# Altium schematic symbol library MiroCard.SCHLIB: 36 symbols
Pins are listed as number, name and electrical type; pins without a type are passive.

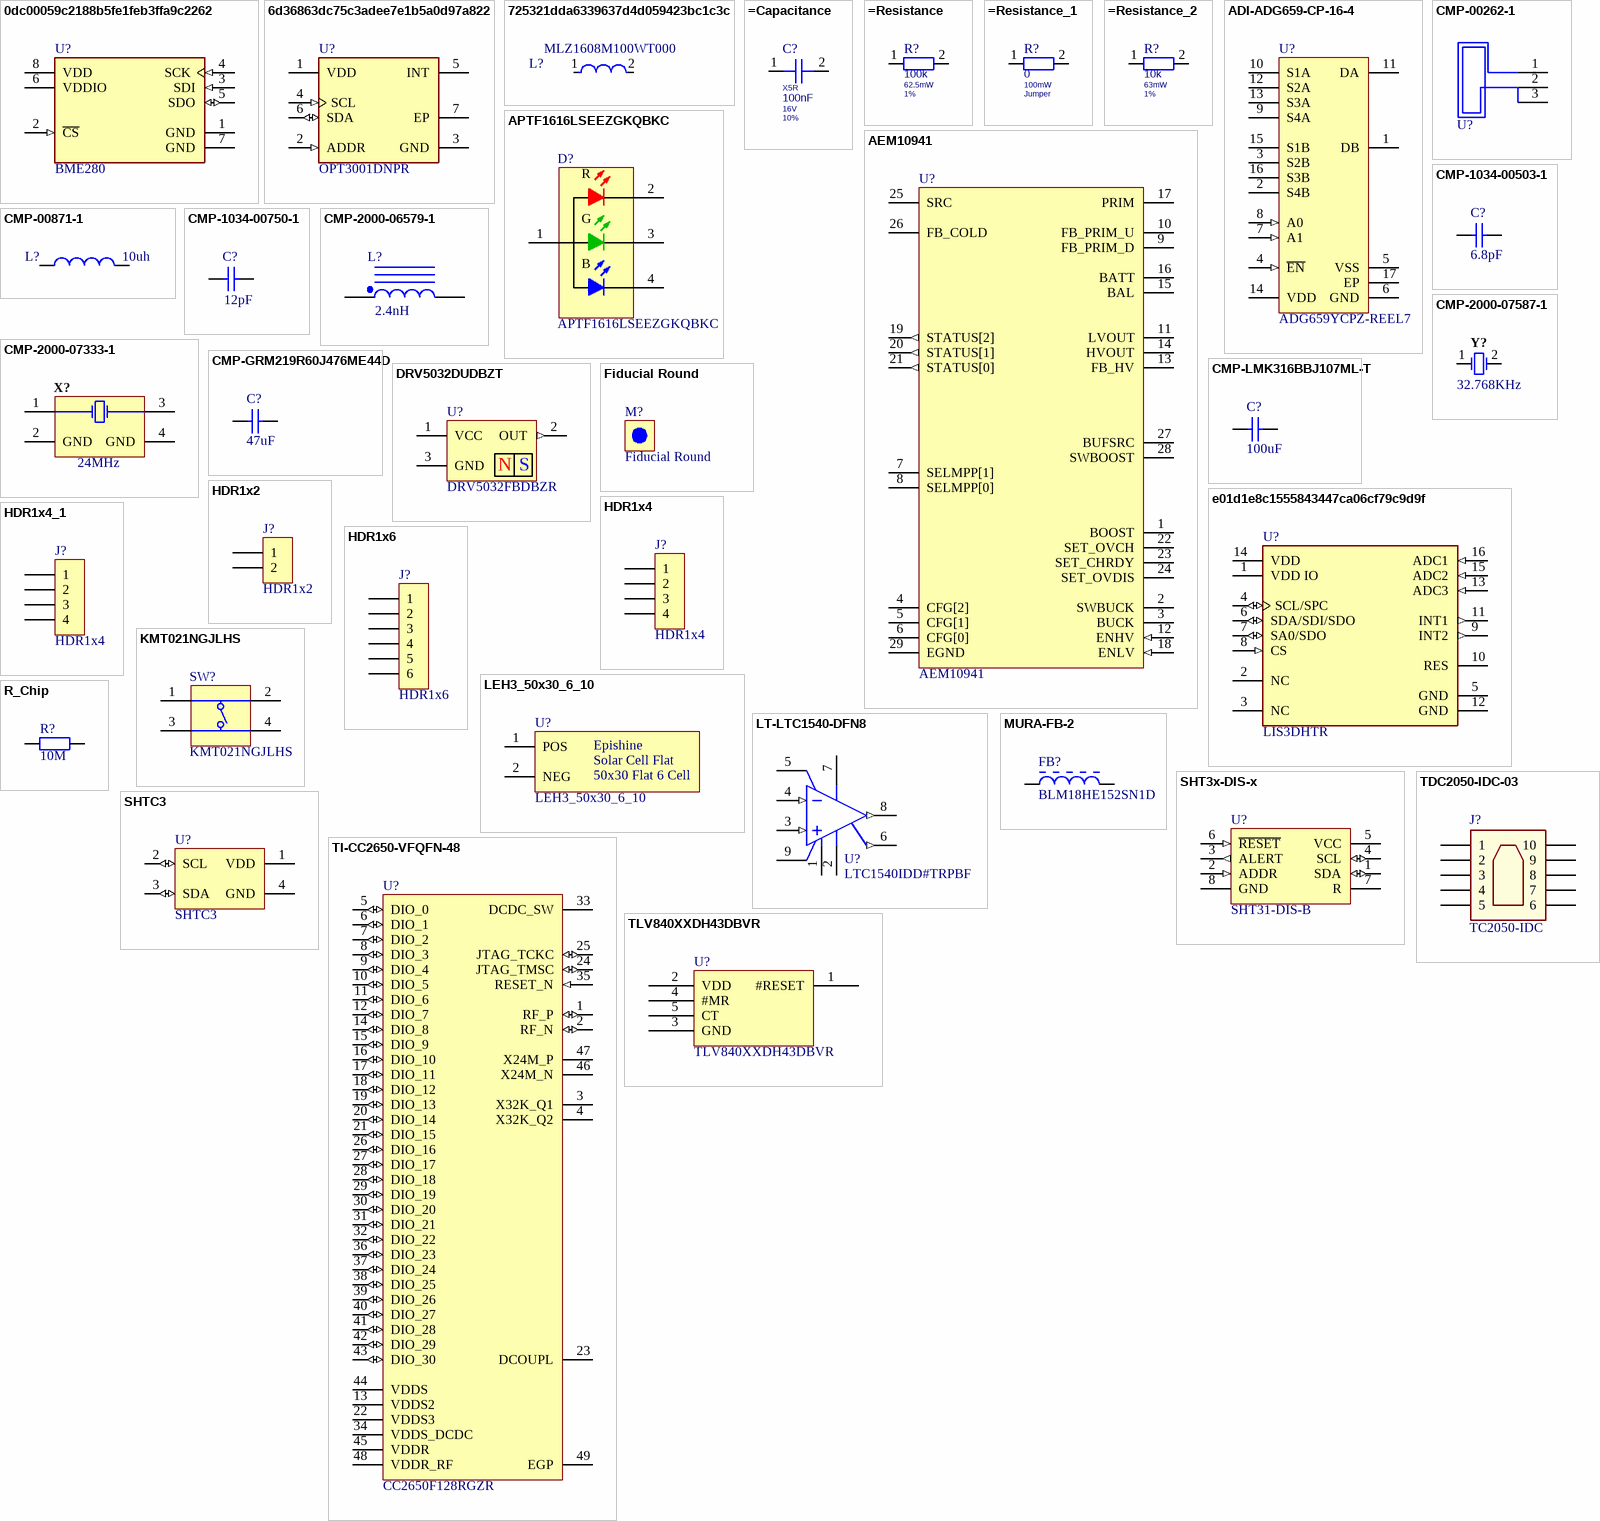
[diagram p0: symbols 0dc00059c2188b5fe1feb3ffa9c2262 to TLV840XXDH43DBVR]

## 0dc00059c2188b5fe1feb3ffa9c2262
designator U?, comment BME280
SENSOR PRESSURE HUMIDITY TEMP; Output Type: SPI; Sensor Type: Temperature; Response Time: 1s; Accuracy: 3%; Packaging: Cut Tape; Lead Free: Lead Free; Number of Pins: 8; Min Operating Temperature: -40°C; Max Operating Temperature: 85°C; Mount: Surface Mount; Case/Package: LGA
footprint FP-BME280-MFG
pins: 1 GND (power), 2 ~{CS} (in), 3 SDI (in), 4 SCK (in), 5 SDO (io), 6 VDDIO (power), 7 GND (power), 8 VDD (power)

## 6d36863dc75c3adee7e1b5a0d97a822
designator U?, comment OPT3001DNPR
SENSOR OPT 550NM AMBIENT 6USON; Manufacturer: Texas Instruments; Max Junction Temp: +150°C; Operating Supply Current: 0.3-1.8uA; Sensor Output: I2C,SMBus; Max Supply Voltage: 3.6V; Min Supply Voltage: 1.6V; Standoff Height: 0mm; Package: DNP0006A; Device Class L2: Optical Sensors; Temperature Range Low: -40°C; Digikey Description: SENSOR OPT 550NM AMBIENT 6USON; Automotive: No; Category: IC; Manufacturer Part Number: OPT3001DNPR; RoHS: TRUE; ComponentLink2URL: http://www.ti.com/lit/ds/symlink/opt3001.pdf; Lead Free: Yes; Octopart: https://octopart.com/opt3001dnpr-texas+instruments-47324050; Device Class L3: unset; ComponentLink2Description: Datasheet; Device Class L1: Sensors; Temperature Range High: +85°C; Temperature: -40°C to +85°C; Height: 0.65mm; Ipc Land Pattern Name: DFN200X200X60-6
footprint FP-DNP0006A-MFG
footprint FP-DNP0006A-IPC_C
footprint FP-DNP0006A-IPC_B
footprint FP-DNP0006A-IPC_A
pins: 1 VDD (power), 2 ADDR (in), 3 GND (power), 4 SCL (in), 5 INT (oc), 6 SDA (io), 7 EP (power)

## 725321dda6339637d4d059423bc1c3c
designator L?, comment MLZ1608M100WT000
FIXED IND 10UH 250MA 1.05 OHM; Manufacturer: TDK; Series Resistance: 1.05Ω; Tolerance: 20%; Shielding: true; Core Material: Ferrite; Saturation Current: 90mA; Test Frequency: 2MHz; Digikey Description: FIXED IND 10UH 250MA 1.05 OHM; Inductance: 10uH; Composition: Multilayer; Device Class L3: Fixed Inductors; Temperature: -55°C to +125°C; RoHS: TRUE; Temperature Range High: +125°C; Automotive: No; Device Class L2: Inductors; Value: 10uH; Temperature Range Low: -55°C; Rms Current: 250mA; Manufacturer Part Number: MLZ1608M100WT000; Category: Ind; Height: 0.95mm; Package: MLZ1608; Device Class L1: Passive Components; Lead Free: Yes; ComponentLink2Description: Datasheet; Octopart: https://octopart.com/mlz1608m100wt000-tdk-22244539; Ipc Land Pattern Name: CAPC16080X80; ComponentLink2URL: https://product.tdk.com/info/en/catalog/datasheets/inductor_commercial_decoupling_mlz1608_en.pdf
footprint FP-MLZ1608-MFG
footprint FP-MLZ1608-IPC_C
footprint FP-MLZ1608-IPC_B
footprint FP-MLZ1608-IPC_A
pins: 1, 2

## =Capacitance
designator C?, comment Dielectric: X5R  Capacitance: 100nF  Voltage Rating: 16V  Tolerance: 10%  (hidden comment: GRM155R61C104KA88D)
0.1µF ±10% 16V Ceramic Capacitor X5R 0402 (1005 Metric); Manufacturer: Murata Electronics; ComponentLink1Description: Datasheet; Manufacturer Part Number: GRM155R61C104KA88D; Supplier 1: Digi-Key; Supplier Part Number 1: 490-5415-1-ND; Mount: Surface Mount; Case/Package: 0402; Case Code (Metric): 1005; Case Code (Imperial): 0402; Min Operating Temperature: -55°C; Max Operating Temperature: 85°C; Package Quantity: 1; Packaging: Tape and Reel; Termination: SMD/SMT; Voltage: 16V; Voltage Rating (DC): 16V; Length: 1mm; Width: 0.02inch; Height: 0.5mm; Thickness: 0.022inch; Depth: 0.5mm; Radiation Hardening: No; REACH SVHC: No SVHC; Lead Free: Lead Free
footprint CAPC0402(1005)60_L (Chip Capacitor, Body 1.0x0.5mm, Height 0.6mm, IPC High Density)
pins: 1, 2

## =Resistance
designator R?, comment Resistance: 100k  Power Rating: 62.5mW  Tolerance: 1%  (hidden comment: RMCF0402FT100K)
100 kOhms ±1% 0,063W, 1/16W Chipwiderstand 0402 (1005 metrisch) AutomobilzulassungAEC-Q200 Dickschicht; Manufacturer: Stackpole Electronics Inc; Temperature Coefficient: 100ppm/°C; Max Power Dissipation: 63mW; ComponentLink1Description: Datasheet; ComponentLink1URL: https://www.seielect.com/catalog/sei-rmcf_rmcp.pdf; Manufacturer Part Number: RMCF0402FT100K; Supplier 1: Digi-Key; Supplier Part Number 1: RMCF0402FT100KCT-ND; Mount: Surface Mount; Case/Package: 0402; Case Code (Metric): 1005; Case Code (Imperial): 0402; Contact Plating: Tin,Matte; Min Operating Temperature: -55°C; Max Operating Temperature: 155°C; Packaging: Tape and Reel; Resistor Type: Thick Film; Number of Terminations: 2; Features: Automotive AEC-Q200; Length: 1mm; Width: 0.02inch; Height: 0.016inch; Depth: 0.5mm; Radiation Hardening: No; Military Standard: Not; Lead Free: Lead Free
footprint RESC0402(1005)_L (Chip Resistor, Body 1.0x0.5mm, IPC High Density)
pins: 1, 2

## =Resistance_1
designator R?, comment Resistance: 0  Power Rating: 100mW  Tolerance: Jumper  (hidden comment: RMCF0603ZT0R00)
0 Ohms Jumper 0.1W, 1/10W Chip Resistor 0603 (1608 Metric) Automotive AEC-Q200 Thick Film; Manufacturer: Stackpole Electronics Inc; Current Rating: 1A; Working Voltage: 75V; ComponentLink1Description: Datasheet; ComponentLink1URL: https://www.seielect.com/catalog/sei-rmcf_rmcp.pdf; Manufacturer Part Number: RMCF0603ZT0R00; Supplier 1: Digi-Key; Supplier Part Number 1: RMCF0603ZT0R00CT-ND; Mount: Surface Mount; Case/Package: 0603; Case Code (Metric): 1608; Case Code (Imperial): 0603; Contact Plating: Tin,Matte; Min Operating Temperature: -55°C; Max Operating Temperature: 155°C; Packaging: Tape and Reel; Resistor Type: Thick Film; Number of Terminations: 2; Max Power Dissipation: 100mW; Features: Automotive AEC-Q200; Length: 1.55mm; Width: 0.031inch; Height: 0.022inch; Depth: 0.8mm; Radiation Hardening: No; Military Standard: Not; Lead Free: Lead Free
footprint RESC0603(1608)_L (Chip Resistor, Body 1.6x0.8mm, IPC High Density)
pins: 1, 2

## =Resistance_2
designator R?, comment Resistance: 10k  Power Rating: 63mW  Tolerance: 1%  (hidden comment: AC0402FR-0710KL)
10 kOhms ±1% 0.063W, 1/16W Chip Resistor 0402 (1005 Metric) Automotive AEC-Q200, Moisture Resistant Thick Film; Manufacturer: Yageo; ComponentLink1Description: Datasheet; ComponentLink1URL: https://www.yageo.com/upload/media/product/productsearch/datasheet/rchip/PYu-AC_51_RoHS_L_7.pdf; Manufacturer Part Number: AC0402FR-0710KL; Supplier 1: Digi-Key; Supplier Part Number 1: YAG3436CT-ND
footprint RESC0201(0603)_L (Chip Resistor, Body 0.6x0.3mm, IPC High Density)
pins: 1, 2

## ADI-ADG659-CP-16-4
designator U?, comment ADG659YCPZ-REEL7
3 V / 5 V / +/-5 V CMOS 4-Channel Analog Multiplexer, -40 to 85 degC, 16-pin QFN (CP-16-4), Reel; Manufacturer: Analog Devices; Ron (ohms): 45; Max Analog Signal Range: Vss to Vdd; t transition (s): 80n; Bandwidth (Hz): 400M; Supply V Guar Performance: Dual_(+/-5V), Single_(+3.3V), Single_(+3V), Single_(+5V); DatasheetVersion: Rev. B; PackageVersion: 010606-0, 01/2006; PackageReference: CP-16-4; Packing: Reel; Mounting Technology: Surface Mount; ComponentLink3URL: http://www.analog.com/static/imported-files/packages/46009454504174339653421710019CP_16_4.pdf; ComponentLink2Description: Datasheet; ComponentLink3Description: Package Specification; Code_JEDEC: MO-220-VGGC; PackageDescription: 16-Pin Lead Frame Chip Scale Package, Body 4 x 4 mm, Pitch 0.65 mm; ComponentLink1Description: Manufacturer URL; ComponentLink2URL: http://www.analog.com/static/imported-files/data_sheets/ADG658_659.pdf; ComponentLink1URL: http://www.analog.com/en/index.html; PartNumber: ADG659YCPZ-REEL7
footprint CP-16-4_L (QFN, 16-Leads, Body 4x4mm, Pitch 0.65mm, Thermal Pad 2.1x2.1mm, IPC High Density)
footprint CP-16-4_M (QFN, 16-Leads, Body 4x4mm, Pitch 0.65mm, Thermal Pad 2.1x2.1mm, IPC Low Density)
footprint CP-16-4_N (QFN, 16-Leads, Body 4x4mm, Pitch 0.65mm, Thermal Pad 2.1x2.1mm, IPC Medium Density)
pins: 1 DB "Drain Terminal. May be an input or output.", 2 S4B "Source Terminal. May be an input or output", 3 S2B "Source Terminal. May be an input or output", 4 ~{EN} (in) "Active Low Digital Input. When high, device is disabled and all switches are OFF. When low, AX logic inputs determine ON switch.", 5 VSS (power) "Most Negative Power Supply Potential.", 6 GND (power) "Ground (0 V) Reference.", 7 A1 (in) "Logic Control Input", 8 A0 (in) "Logic Control Input", 9 S4A "Source Terminal. May be an input or output", 10 S1A "Source Terminal. May be an input or output", 11 DA "Drain Terminal. May be an input or output.", 12 S2A "Source Terminal. May be an input or output", 13 S3A "Source Terminal. May be an input or output", 14 VDD (power) "Most Positive Power Supply Potential.", 15 S1B "Source Terminal. May be an input or output", 16 S3B "Source Terminal. May be an input or output", 17 EP "Exposed pad."

## AEM10941
designator U?
Highly-efficient, regulated dual-output, ambient energy manager; Manufacturer: e-peas; ComponentLink1Description: Datasheet; Manufacturer Part Number: AEM10941; Supplier 1: e-peas; Supplier Part Number 1: AEM10941
footprint QFN50P500X500X85_HS-29N (QFN, 28-Leads, Body 5.00x5.00mm, Pitch 0.50mm, Thermal Pad 3.15x3.15mm, IPC Medium Density)
pins: 1 BOOST, 2 SWBUCK, 3 BUCK, 4 CFG[2], 5 CFG[1], 6 CFG[0], 7 SELMPP[1], 8 SELMPP[0], 9 FB_PRIM_D, 10 FB_PRIM_U, 11 LVOUT, 12 ENHV (in), 13 FB_HV, 14 HVOUT, 15 BAL, 16 BATT, 17 PRIM, 18 ENLV (in), 19 STATUS[2] (out), 20 STATUS[1] (out), 21 STATUS[0] (out), 22 SET_OVCH, 23 SET_CHRDY, 24 SET_OVDIS, 25 SRC, 26 FB_COLD, 27 BUFSRC, 28 SWBOOST, 29 EGND

## APTF1616LSEEZGKQBKC
designator D?
HELI Colour; 1.6X1.6MM LOW CURRENT RGB SMD LED; Manufacturer: Kingbright; Colour: Blue,Green,Red; Lens Colour: Colorless; Lens Transparency: Clear; Luminous Intensity: 14mcd; Test Current: 2mA; Viewing Angle: 120°; Dominant Wavelength: 465nm; Forward Voltage: 2.7V; Properties: Red, Green, Blue (RGB) 621nm Red, 525nm Green, 465nm Blue LED Indication - Discrete 1.8V Red, 2.7V Green, 2.7V Blue 0606 (1616 Metric); Case Code (Metric): 1616; Case Code (Imperial): 0606; Packaging: Tape and Reel; Case/Package: 0606; Length: 1.6mm; Height: 0.9mm; Width: 1.6mm; Manufacturer Part Number: APTF1616LSEEZGKQBKC; Supplier 1: Digi-Key; Supplier Part Number 1: 754-1972-1-ND; ComponentLink1Description: 3447e5e9f92dce591761be9cb3680f3b.pdf; ComponentLink1URL: http://www.alliedelec.com/m/d/3447e5e9f92dce591761be9cb3680f3b.pdf; Category: LED
footprint APTF1616LSEEZGKQBKC (RGB LED 2.65V)
pins: 1, 2 R, 3 G, 4 B

## CMP-00262-1
designator U?, comment Antenna Patch  (value not drawn)  (net tie, no BOM)
2.4GHz Inverted F Antenna; Technology: SMT
footprint 2.4GHz Inverted F Antenna (Antenna Patch, 2 pins, 1 side)
pins: 1, 2, 3

## CMP-00871-1
designator L?, comment Inductance: 10uh  (hidden comment: CKS2125100M-T)
FIXED IND 10UH 110MA 520 MOHM; Core Material: Ferrite; Tolerance: 20%; Shielding: Unshielded; Self Resonant Frequency: 24MHz; DC Resistance (DCR): 520mR; Test Frequency: 2MHz; Mount: Surface Mount; Case/Package: 0805; Case Code (Metric): 2012; Case Code (Imperial): 0805; Min Operating Temperature: -40°C; Max Operating Temperature: 85°C; Package Quantity: 2000; Current Rating: 110mA; Packaging: Tape and Reel; Inductance Tolerance: 20%; Max DC Current: 110mA; Termination: SMD/SMT; DC Current: 110mA; Military Standard: Not; Length: 2mm; Height: 1.25mm; Width: 0.049inch; Height - Seated (Max): 0.057inch; Depth: 1.45mm; Radiation Hardening: No; REACH SVHC: Unknown; Lead Free: Lead Free; Halogen Free: Halogen Free
footprint INDC0805(2012)X11_N (Chip Inductor, 2-Leads, Body 2.00x1.25mm, IPC Medium Density)
footprint INDC0805(2012)X11_L (Chip Inductor, 2-Leads, Body 2.00x1.25mm, IPC High Density)
footprint INDC0805(2012)X11_M (Chip Inductor, 2-Leads, Body 2.00x1.25mm, IPC Low Density)
pins: 1, 2

## CMP-1034-00503-1
designator C?, comment value 6.8pF  (hidden comment: CAP 6.8pF 10V 0402(1005))
CAP 6.8pF 10V ±5% 0402 (1005 Metric) Thickness 0.6mm SMD; Case-EIA: 0402; Case-Metric: 1005; Tolerance: Â±5%; Technology: SMT; Rated Voltage: 10 V; Max Thickness: 0.6 mm
footprint CAPC0402(1005)60_L (Chip Capacitor, Body 1.0x0.5mm, Height 0.6mm, IPC High Density)
footprint CAPC0402(1005)60_N (Chip Capacitor, Body 1.0x0.5mm, Height 0.6mm, IPC Medium Density)
footprint CAPC0402(1005)60_M (Chip Capacitor, Body 1.0x0.5mm, Height 0.6mm, IPC Low Density)
pins: 1, 2
1 alternate drawing of the same symbol

## CMP-1034-00750-1
designator C?, comment value 12pF  (hidden comment: CAP 12pF 10V 0402(1005))
CAP 12pF 10V ±2% 0402 (1005 Metric) Thickness 0.6mm SMD; Tolerance: Â±2%; Case-EIA: 0402; Case-Metric: 1005; Max Thickness: 0.6 mm; Rated Voltage: 10 V; Technology: SMT
footprint CAPC0402(1005)60_N (Chip Capacitor, Body 1.0x0.5mm, Height 0.6mm, IPC Medium Density)
footprint CAPC0402(1005)60_M (Chip Capacitor, Body 1.0x0.5mm, Height 0.6mm, IPC Low Density)
footprint CAPC0402(1005)60_L (Chip Capacitor, Body 1.0x0.5mm, Height 0.6mm, IPC High Density)
pins: 1, 2
1 alternate drawing of the same symbol

## CMP-2000-06579-1
designator L?, comment Inductance: 2.4nH  (hidden comment: LQG15HS2N4S02D)
Chip Inductor, 2.4 nH, +/- 0.3 nH, 300 mA, -55 to 125 degC, 0402 (1005 Metric), RoHS, Tape and Reel; Manufacturer: MurataElectronics; Core Material: Air; Minimum Quality Factor: 8@100MHz; Tolerance: 0.3nH; Maximum DC Resistance: 150mOhm; Type: RFChip; Maximum DC Current: 300mA; Product Height: 0.55mm; Datasheet URL: http://search.murata.co.jp/Ceramy/image/img/PDF/ENG/L0075S0083LQG15HS.pdf; Mounting Technology: SurfaceMount; Package Reference: 0402; Package Description: 2-Pin Surface Mount Device, Body 1 x 0.5 mm; Category: InductorSurfaceMount; Manufacturer URL: http://www.murata.com/; Package/Case: 0402; Datasheet Version: 09/2010
footprint INDC1005X55X25LL05T10_A (Chip Inductor, 2-Leads, Body 1.05x0.55mm, IPC High Density)
footprint INDC1005X55X25ML05T10_A (Chip Inductor, 2-Leads, Body 1.05x0.55mm, IPC Low Density)
footprint INDC1005X55X25NL05T10_A (Chip Inductor, 2-Leads, Body 1.05x0.55mm, IPC Medium Density)
pins: 1, 2

## CMP-2000-07333-1
designator X?, comment Frequency: 24MHz  (hidden comment: TSX-3225 24.0000MF15X-AC3)
MHz Range Crystal, 24 MHz, -40 to 85 degC, 4-Pin SMD, RoHS, Tape and Reel; Manufacturer: Epson; Brand: EpsonTiming; Frequency Stability: 10PPM; ESR: 40Ohms; Load Capacitance: 9pF; Unit Weight: 0.000564oz; Drive Level: 200uW; Datasheet Version: 12/2015; RoHS: True; Operating Temperature Range: -40Cto+85C; Length: 3.2mm; Tolerance: 10PPM; Width: 2.5mm; Mounting Technology: SurfaceMount; Package Description: 4-Pin Surface Mount Device, Body 3.2 x 2.5 mm; Manufacturer URL: https://www.eea.epson.com/; Factory Pack Quantity: 250; Package Reference: TSX-3225; Height: 0.6mm; Mounting Style: SMD/SMT; Termination Style: SMD/SMT; Datasheet URL: https://support.epson.biz/td/api/doc_check.php?dl=brief_FA-238V_en.pdf; Type: Crystal; Series: TSX-3225; Package / Case: 3.2mmx2.5mm; Product Category: Crystals; Packaging: Reel
footprint EPSON-TSX-3225_V (SMD, 4-Leads, Body 3.2x2.5mm)
pins: 1 X1, 2 GND (power), 3 X2, 4 GND (power)

## CMP-2000-07587-1
designator Y?, comment Frequency: 32.768KHz  (hidden comment: ABS07-120-32.768KHZ-T)
Tuning Fork Crystal, 32.768 KHz, +/- 20 ppm, -40 to 85 degC, 2-Pin SMD, RoHS, Tape and Reel; Manufacturer: Abracon; Case\/Package: SMD/SMT; Series Resistance: 60KOhm; Frequency Tolerance: 20ppm; Load Capacitance: 6pF; ESR (Equivalent Series Resistance): 55KOhm; Max Operating Temperature: 85degC; Width: 0.061inch; Radiation Hardening: No; Lead Free: LeadFree; RoHSCompliant: True; Depth: 1.5mm; Datasheet URL: http://www.abracon.com/Resonators/ABS07-120-32.768kHz-T.pdf; Termination: SMD/SMT; Manufacturer URL: http://www.abracon.com/; Package Quantity: 3000; Packaging: TapeandReel; Number of Pins: 2; Height: 0.035inch; Package Description: 2-Pin Surface Mount Device, Body 3.2 x 1.5 mm; Package Reference: ABS07; Mount: SurfaceMount; Tolerance: 20ppm; Mounting Technology: SurfaceMount; REACH SVHC: NoSVHC; Datasheet Version: 11/2014; Length: 3.2mm; Min Operating Temperature: -40degC
footprint ABRA-ABS07_A_V (SMD, 2-Leads, Body 3.2x1.5mm)
pins: 1, 2

## CMP-GRM219R60J476ME44D 
designator C?, comment value 47uF  (hidden comment: CAP 47uF 6.3V 0805(2012))
CAP 47uF 6.3V ±20% 0805 (2012 Metric) Thickness 0.95mm SMD; Tolerance: Â±20%; Case-EIA: 0805; Case-Metric: 2012; Rated Voltage: 6.3 V; Technology: SMT; Max Thickness: 0.95 mm
footprint CAPC0805(2012)95_L (Chip Capacitor, Body 2.0x1.2mm, Height 0.95mm, IPC High Density)
pins: 1, 2
1 alternate drawing of the same symbol

## CMP-LMK316BBJ107ML-T
designator C?, comment value 100uF  (hidden comment: CAP 100uF 10V 1206(3216))
CAP 100uF 10V ±20% 1206 (3216 Metric) Thickness 1.45mm SMD; Tolerance: Â±20%; Case-EIA: 1206; Case-Metric: 3216; Rated Voltage: 10 V; Technology: SMT; Max Thickness: 1.45 mm
footprint CAPC1206(3216)145_N
pins: 1, 2
1 alternate drawing of the same symbol

## DRV5032DUDBZT
designator U?, comment DRV5032FBDBZR
HAL SENSOR, ULTRA-LOW POWER, 1.65V TO 5.5V; Manufacturer: Texas Instruments; ComponentLink1Description: Datasheet; ComponentLink1URL: http://www.ti.com/general/docs/suppproductinfo.tsp?distId=10&gotoUrl=http%3A%2F%2Fwww.ti.com%2Flit%2Fgpn%2Fdrv5032; Manufacturer Part Number: DRV5032FBDBZR; Supplier 1: Digikey; Supplier Part Number 1: 296-47323-1-ND; Min Operating Temperature: -40°C; Max Operating Temperature: 85°C
footprint SOT23-3 (SOT23-3, SOT 23-3, SOT23, SOT-23-3)
pins: 1 VCC (power), 2 OUT (out), 3 GND (power)
text: N; S

## e01d1e8c1555843447ca06cf79c9d9f
designator U?, comment LIS3DHTR
ACCEL 2-16G I2C/SPI 16LGA; Interface: I2C; Bandwidth: 5kHz; Operating Supply Voltage: 2.5V; Min Supply Voltage: 1.71V; Resolution: 16b; Max Supply Voltage (DC): 3.6V; Axis: X, Y, Z; Operating Supply Current: 11uA; Sensor Type: 3 Axis; Output Type: Digital; Lead Free: Lead Free; Case/Package: LGA; REACH SVHC: No SVHC; Width: 3mm; Height: 1mm; Packaging: Tape and Reel; Contact Plating: Gold; Length: 3mm; Package Quantity: 1; Min Supply Voltage (DC): 1.71V; Max Operating Temperature: 85°C; Min Operating Temperature: -40°C; Number of Pins: 16; Radiation Hardening: No; Depth: 3mm; Max Supply Voltage: 3.6V
footprint FP-LGA-16-7983231-MFG
pins: 1 VDD IO (power), 2 NC, 3 NC, 4 SCL/SPC (io), 5 GND (power), 6 SDA/SDI/SDO (io), 7 SA0/SDO (io), 8 CS (in), 9 INT2 (out), 10 RES (power), 11 INT1 (out), 12 GND (power), 13 ADC3 (in), 14 VDD (power), 15 ADC2 (in), 16 ADC1 (in)

## Fiducial Round
designator M?  (no BOM)
Fiducial (Optical Marker)
footprint Fiducial round (1mm round fiducial)
footprint Fiducial round_small (0.5mm round fiducial, 1mm free area)

## HDR1x2
designator J?
1x2 Pin Header, 2.54mm; Properties: 1x2 Pin Terminal Header, 2.54mm; SchLibComponentName: HDR1x2
footprint HDR1x2 (2 Pin Header, 2.54 mm)
pins: 1, 2

## HDR1x4
designator J?  (no BOM)
1x4 Pin Header, 2.54mm; Properties: 1x4 Pin Terminal Header, 2.54mm; SchLibComponentName: HDR1x4
footprint HDR1x4 (4 Pin Header, 2.54 mm)
pins: 1 (power), 2 (power), 3 (power), 4 (power)

## HDR1x4_1
designator J?, comment HDR1x4  (no BOM)
1x4 Pin Header, 2.54mm; Properties: 1x4 Pin Terminal Header, 2.54mm; SchLibComponentName: HDR1x4
footprint HDR1x4 (4 Pin Header, 2.54 mm)
pins: 1, 2, 3, 4

## HDR1x6
designator J?
1x6 Pin Header, 2.54mm; Properties: 1x6 Pin Terminal Header, 2.54mm; SchLibComponentName: HDR1x6
footprint HDR1x6 (6 Pin Header, 2.54 mm)
pins: 1 (power), 2 (power), 3, 4, 5, 6

## KMT021NGJLHS
designator SW?
Sensorschalter Ultra-LW Tact SW SMT SPNOFa 1.6N HF; Manufacturer: C&K; ComponentLink1Description: Datasheet; ComponentLink1URL: https://www.mouser.ch/datasheet/2/60/kmt0-1841444.pdf; Manufacturer Part Number: KMT021NGJLHS; Supplier 1: Mouser; Supplier Part Number 1: 611-KMT021NGJLHS
footprint KMT021NGJLHS-Footprint-1
pins: 1 T1, 2 T2, 3 T3, 4 T3

## LEH3_50x30_6_10
designator U?
Solar Cell 50x30 Flat 6 Cell; Manufacturer: Epishine; ComponentLink1Description: Datasheet; Manufacturer Part Number: LEH3_50x30_6_10; Supplier 1: Epishine; Supplier Part Number 1: LEH3_50x30_6_10
footprint 50x30 Flat 6 Cell - Gen 2-Footprint-1
pins: 1 POS (power), 2 NEG (power)
text: Solar Cell Flat; 50x30 Flat 6 Cell

## LT-LTC1540-DFN8
designator U?, comment LTC1540IDD#TRPBF
Nanopower Comparator with Reference, 1 Channel, 2 to 11 V, -40 to +85 degC, 8-pin Plastic DFN (DD8), Tape and Reel; Manufacturer: Linear Technology; Channels (#): 1; Vos (mV) Guaranteed: 12; Vs Min (V): 2; Prop Delay (us): 50; Supply Current (uA) Typical: 0.3; Supply Voltage Range: 2 to 11 V; Vs Max (V): 11; Supply Current (uA) Guaranteed: 0.68; ComponentLink2URL: http://cds.linear.com/docs/en/datasheet/1540fas.pdf; PackageDescription: 8-Pin Plastic DFN, Body 3 Ã— 3 mm, Pitch 0.5 mm; ComponentLink1URL: http://www.linear.com/; Vos (mV) Typical: 12; Generic Part Number: LTC1540; ComponentLink3Description: Package Specification; Features: Reference, Comparator; ComponentLink3URL: http://cds.linear.com/docs/en/packaging/DFN_8_05-08-1698.pdf; PartNumber: LTC1540IDD#TRPBF; DatasheetVersion: Rev A; RoHS: Y; Mounting Technology: Surface Mount; Code_JEDEC: M0-229; ComponentLink2Description: Datasheet; PackageReference: DD8; ComponentLink1Description: Manufacturer URL
footprint LT-DD8_V (SON, 8-Leads, Body 3x3mm, Pitch 0.5mm, Thermal Pad 2.38x1.65mm)
pins: 1 GND (power) "Ground. Connect to V- for single supply operation.", 2 V- (power) "Negative Supply. Potential should be more negative than GND. Connect to ground for single supply operation.", 3 IN+ (in) "Noninverting Comparator Input. Input common mode range from V- to V+ -1.3V. Input current typically 10pA at 25degreesC.", 4 IN- (in) "Inverting Comparator Input. Input common mode range from V- to V+ -1.3V. Input current typically 10pA at 25degreesC.", 5 HYST "Hysteresis Input. Connect to REF if not used. Input voltage range is from VREF to VREF-50mV.", 6 REF (out) "Reference Output. 1.182V with respect to V-. Can source up to 1mA and sink 10uA at 25degreesC. Drive 0.01uF bypass capacitor without oscillation.", 7 V+ (power) "Positive Supply operating voltage is from 2V to 11V.", 8 OUT (out) "Comparator CMOS Output. Swings from GND to V+. Output can source up to 40mA and sink 5mA.", 9 EP (power) "Exposed Pad"

## MURA-FB-2
designator FB?, comment BLM18HE152SN1D
Chip Ferrite Bead for GHz Band High-speed Signal Lines, 1500 Ohm, 500 mA, -55 to 125 degC, 1.6 x 0.8 x 0.95 mm SMD, Tape and Reel; Manufacturer: Murata; Rated Current: 500 mA; Impedance (at 100 MHz): 1500 Ohm +/- 25%; DC Resistance: 0.50 Ohm Max.; Packing: Tape and Reel; DatasheetVersion: 08/2013; ComponentLink1URL: http://www.murata.com/; Mounting Technology: Surface Mount; ComponentLink2URL: http://www.murata.com/products/catalog/pdf/c31e.pdf; ComponentLink3Description: Package Specification; ComponentLink2Description: Datasheet; PackageReference: BLM18_H950-2; ComponentLink1Description: Manufacturer URL; PackageDescription: 2-Pin Chip, Body 1.6 x 0.8 mm; ComponentLink3URL: http://www.murata.com/products/catalog/pdf/c31e.pdf; PartNumber: BLM18HE152SN1D; Operating Temperature Range: -55 to 125 degC
footprint MURA-BLM18-RF-H4-CHIP-2_V (Chip Ferrite Bead, 2-Leads, Body 1.6x0.8mm, Height 0.95mm, Reflow)
footprint MURA-BLM18-F-H1-CHIP-2_V (Chip Ferrite Bead, 2-Leads, Body 1.6x0.8mm, Height 0.95mm, Flow)
pins: 1, 2

## R_Chip
designator R?, comment 10M
Chip Resistor; SchLibComponentName: R_Chip; Properties: 1%
footprint RESC0402(1005)_L (Chip Resistor, Body 1.0x0.5mm, IPC High Density)
footprint RESC0402(1005)_M (Chip Resistor, Body 1.0x0.5mm, IPC Low Density)
footprint RESC0201(0603)_N (Chip Resistor, Body 0.6x0.3mm, IPC Medium Density)
footprint RESC1206(3216)_M (Chip Resistor, Body 3.2x1.6mm, IPC Low Density)
footprint RESC1206(3216)_N (Chip Resistor, Body 3.2x1.6mm, IPC Medium Density)
footprint RESC1210(3225)_L (Chip Resistor, Body 3.2x2.5mm, IPC High Density)
footprint RESC1210(3225)_M (Chip Resistor, Body 3.2x2.5mm, IPC Low Density)
footprint RESC1210(3225)_N (Chip Resistor, Body 3.2x2.5mm, IPC Medium Density)
footprint RESC0402(1005)_N (Chip Resistor, Body 1.0x0.5mm, IPC Medium Density)
footprint RESC0603(1608)_L (Chip Resistor, Body 1.6x0.8mm, IPC High Density)
footprint RESC0603(1608)_M (Chip Resistor, Body 1.6x0.8mm, IPC Low Density)
footprint RESC0603(1608)_N (Chip Resistor, Body 1.6x0.8mm, IPC Medium Density)
footprint RESC0805(2012)_L (Chip Resistor, Body 2.0x1.3mm, IPC High Density)
footprint RESC0805(2012)_M (Chip Resistor, Body 2.0x1.3mm, IPC Low Density)
footprint RESC0805(2012)_N (Chip Resistor, Body 2.0x1.3mm, IPC Medium Density)
footprint RESC1206(3216)_L (Chip Resistor, Body 3.2x1.6mm, IPC High Density)
footprint RESC0201(0603)_L (Chip Resistor, Body 0.6x0.3mm, IPC High Density)
footprint RESC0201(0603)_M (Chip Resistor, Body 0.6x0.3mm, IPC Low Density)
footprint RESC01005(0402)22_L
footprint RESC01005(0402)22_M
footprint RESC01005(0402)22_N
pins: 1, 2

## SHT3x-DIS-x
designator U?, comment SHT31-DIS-B
SENSIRION         SHT31-DIS-B             Humidity Sensor, 2 %, 3.3 V, 0% to 100% Relative Humidity, TDFN, 8 Pins, 8 s; Response Time: 8s; Operating Supply Voltage: 3.3V; Interface: I2C; Min Supply Voltage: 2.4V; Max Supply Voltage: 5.5V; Accuracy: 2%; Sensor Type: Temperature; Output Type: I2C, Digital; Mount: Surface Mount; Case/Package: DFN; Number of Pins: 8; Min Operating Temperature: -40°C; Max Operating Temperature: 125°C; Packaging: Cut Tape; Length: 2.6mm; Height: 1mm; Width: 2.6mm; REACH SVHC: No SVHC; Lead Free: Lead Free; Datasheet: https://www.sensirion.com/fileadmin/user_upload/customers/sensirion/Dokumente/0_Datasheets/Humidity/Sensirion_Humidity_Sensors_SHT3x_Datasheet_digital.pdf; Manufacturer: Sensirion; Manufacturer Part Number: SHT31-DIS-B; Supplier 1: Digi-Key; Supplier Part Number 1: 1649-1011-1-ND; ComponentLink1Description: Datasheet
footprint 8  -  Pin DFN 2.5  x  2.5  mm x 0.9 mm
pins: 1 SDA (io), 2 ADDR (in), 3 ALERT (out), 4 SCL (io), 5 VCC (power), 6 ~{RESET} (in), 7 R (power), 8 GND (power)

## SHTC3
designator U?
SENSOR HUMI/TEMP I2C 2% SMD; Manufacturer: Sensirion; ComponentLink1Description: Datasheet; ComponentLink1URL: https://media.digikey.com/pdf/Data%20Sheets/Sensirion%20PDFs/HT_DS_SHTC3_D1.pdf; Datasheet: https://media.digikey.com/pdf/Data%20Sheets/Sensirion%20PDFs/HT_DS_SHTC3_D1.pdf; Manufacturer Part Number: SHTC3; Supplier 1: Digikey; Supplier Part Number 1: 1649-1100-1-ND
footprint SHTC1-Footprint-1
pins: 1 VDD (power), 2 SCL (io), 3 SDA (io), 4 GND (power)

## TDC2050-IDC-03
designator J?, comment TC2050-IDC  (no BOM)
TDC2050-IDC, 10Pins, dual footprint (leg and no-legs); Manufacturer: Tag-Connect; SchLibComponentName: TC2050-IDC; ComponentLink1Description: Datasheet; ComponentLink1URL: http://www.tag-connect.com/Materials/TC2050-IDC%20Datasheet.pdf; Manufacturer Part Number: TC2050-IDC
footprint TC2050-IDC (Tag Connect 2050 IDC, 10 Pins)
footprint TC2050-IDC-NL-10 (Tag Connect 2050 IDC, 10 Pins, no legs)
pins: 1, 2, 3, 4, 5, 6, 7, 8, 9, 10

## TI-CC2650-VFQFN-48
designator U?, comment CC2650F128RGZR
CC2650 SimpleLink(TM) Multistandard Wireless MCU, 1.8 to 3.8 V, -40 to 85 degC, 48-Pin VFQFN, Green (RoHS & no Sb/Br), Tape and Reel; Manufacturer: Texas Instruments; Minimum Operating Supply Voltage: 1.8V; Maximum Operating Supply Voltage: 3.8V; Maximum Speed: 48MHz; Lead Finish: GoldOverNickelPalladium; Screening Level: Industrial; Program Memory Size: 128KB; Max Processing Temp: 260; Operating Supply Voltage: 2.5; RAM Size: 30KB; Operating Temperature: -40to85C; Datasheet URL: http://www.ti.com/lit/ds/symlink/cc2650.pdf; Manufacturer URL: http://www.ti.com/; Datasheet Version: Rev. B, 07/2016; Category: MicrocontrollerTools; Package Description: 48-Pin Quad Flat No-lead Package, Body 7 x 7 mm, Pitch 0.5 mm; Package Reference: RGZ0048A; Mounting Technology: SurfaceMount; Mounting: SurfaceMount
footprint RGZ0048A_V (QFN, 48-Leads, Body 7x7mm, Pitch 0.5mm, Thermal Pad 5.15X5.15mm, TI recommended)
pins: 1 RF_P (io) "Positive RF input signal to LNA during RX. Positive RF output signal to PA during TX", 2 RF_N (io) "Negative RF input signal to LNA during RX. Negative RF output signal to PA during TX", 3 X32K_Q1 "32-kHz crystal oscillator pin 1", 4 X32K_Q2 "32-kHz crystal oscillator pin 2", 5 DIO_0 (io) "GPIO, Sensor Controller", 6 DIO_1 (io) "GPIO, Sensor Controller", 7 DIO_2 (io) "GPIO, Sensor Controller", 8 DIO_3 (io) "GPIO, Sensor Controller", 9 DIO_4 (io) "GPIO, Sensor Controller", 10 DIO_5 (io) "GPIO, Sensor Controller, high-drive capability", 11 DIO_6 (io) "GPIO, Sensor Controller, high-drive capability", 12 DIO_7 (io) "GPIO, Sensor Controller, high-drive capability", 13 VDDS2 (power) "1.8-V to 3.8-V DIO supply", 14 DIO_8 (io) "GPIO", 15 DIO_9 (io) "GPIO", 16 DIO_10 (io) "GPIO", 17 DIO_11 (io) "GPIO", 18 DIO_12 (io) "GPIO", 19 DIO_13 (io) "GPIO", 20 DIO_14 (io) "GPIO", 21 DIO_15 (io) "GPIO", 22 VDDS3 (power) "1.8-V to 3.8-V DIO supply", 23 DCOUPL "1.27-V regulated digital-supply decoupling capacitor", 24 JTAG_TMSC (io) "JTAG TMSC, high-drive capability", 25 JTAG_TCKC (io) "JTAG TCKC", 26 DIO_16 (io) "GPIO, JTAG_TDO, high-drive capability", 27 DIO_17 (io) "GPIO, JTAG_TDI, high-drive capability", 28 DIO_18 (io) "GPIO", 29 DIO_19 (io) "GPIO", 30 DIO_20 (io) "GPIO", 31 DIO_21 (io) "GPIO", 32 DIO_22 (io) "GPIO", 33 DCDC_SW (power) "Output from internal DC-DC", 34 VDDS_DCDC (power) "1.8-V to 3.8-V DC-DC supply", 35 RESET_N (in) "Reset, active-low. No internal pullup.", 36 DIO_23 (io) "GPIO, Sensor Controller, Analog", 37 DIO_24 (io) "GPIO, Sensor Controller, Analog", 38 DIO_25 (io) "GPIO, Sensor Controller, Analog", 39 DIO_26 (io) "GPIO, Sensor Controller, Analog", 40 DIO_27 (io) "GPIO, Sensor Controller, Analog", 41 DIO_28 (io) "GPIO, Sensor Controller, Analog", 42 DIO_29 (io) "GPIO, Sensor Controller, Analog", 43 DIO_30 (io) "GPIO, Sensor Controller, Analog", 44 VDDS (power) "1.8-V to 3.8-V main chip supply", 45 VDDR (power) "1.7-V to 1.95-V supply, typically connect to output of internal DC-DC", 46 X24M_N "24-MHz crystal oscillator pin 1", 47 X24M_P "24-MHz crystal oscillator pin 2", 48 VDDR_RF (power) "1.7-V to 1.95-V supply, typically connect to output of internal DC-DC", 49 EGP (power) "Ground - Exposed Ground Pad"

## TLV840XXDH43DBVR
designator U?
Low-voltage supervisor with adjustable-reset time delay and manual reset; Manufacturer: Texas Instruments; ComponentLink1Description: Datasheet; ComponentLink1URL: https://www.ti.com/lit/ds/symlink/tlv840.pdf?ts=1604051563341&ref_url=https%253A%252F%252Fwww.ti.com%252Fproduct%252FTLV840; Manufacturer Part Number: TLV840XXDH43DBVR; Supplier 1: Texas Instruments; Supplier Part Number 1: TLV840XXDH43DBVR
footprint SOT23-5 SOT-23-5
pins: 1 #RESET, 2 VDD (power), 3 GND (power), 4 #MR, 5 CT